# Altium schematic symbol library Sensors.SchLib: 3 symbols
Pins are listed as number, name and electrical type; pins without a type are passive.

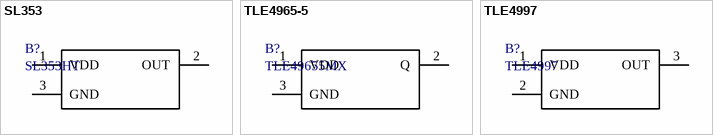
[diagram p0: symbols SL353 to TLE4997]

## SL353
designator B?, comment SL353HT
Digital Switch Omnipolar Switch Push-Pull Hall Effect SOT-23-3; Manufacture: Honeywell Sensing and Productivity Solutions; Name: Датчик Холла; Case: SOT23-3; HelpURL: https://www.digikey.com/product-detail/en/infineon-technologies/TLE49655MXTSA1/TLE49655MXTSA1TR-ND/5960640; Model: SL353HT; Value: SL353HT
footprint PG-SOT23-3-15
pins: 1 VDD, 2 OUT, 3 GND

## TLE4965-5
designator B?, comment TLE49655MX
IC HALL EFFECT UNIPOLAR SOT23-3; Manufacture: Infineon Technologies; Model: TLE49655MXTSA1; Name: Датчик Холла; Case: PG-SOT23-3-15; HelpURL: https://www.digikey.com/product-detail/en/infineon-technologies/TLE49655MXTSA1/TLE49655MXTSA1TR-ND/5960640; Value: TLE49655MX
footprint PG-SOT23-3-15
pins: 1 VDD, 2 Q, 3 GND

## TLE4997
designator B?
Hall Effect Sensor Single Axis PG-SSO-3-92; Manufacture: Infineon Technologies; Model: TLE4997E2XALA1; Name: Датчик Холла; Case: PG-SSO-3-92; HelpURL: https://www.digikey.com/en/products/detail/infineon-technologies/TLE4997E2XALA1/2081764; Value: TLE4997
footprint PG-SSO-3-10
pins: 1 VDD, 2 GND, 3 OUT